# EAGLE library part INA226 (library HyTechDevices)
INA226 Current and Power Monitor with I2C Compatible Interface
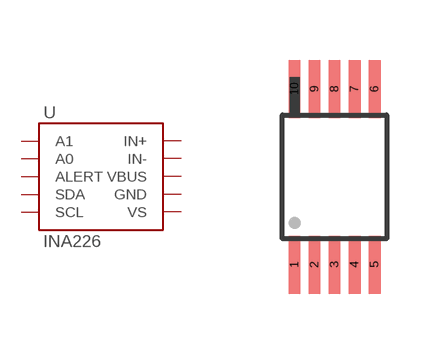
[diagram p76: symbol with the pads of VSSOP-10; footprint VSSOP-10]

Designator prefix -

## INA226  [VSSOP-10]
1  A1  pas
2  A0  pas
3  ALERT  pas
4  SDA  pas
5  SCL  pas
6  VS  pas
7  GND  pas
8  VBUS  pas
9  IN-  pas
10  IN+  pas

## Footprint VSSOP-10 (pad centres in mm)
smd 0.3 x 1.45: 1 -1,-2.2; 2 -0.5,-2.2; 3 0,-2.2; 4 0.5,-2.2; 5 1,-2.2; 6 1,2.2; 7 0.5,2.2; 8 0,2.2; 9 -0.5,2.2; 10 -1,2.2